# EAGLE library part TXB0104 (library electronic-labs)
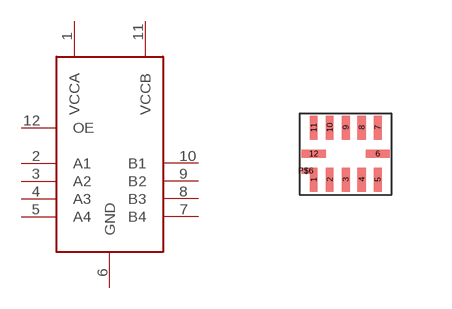
[diagram p21: symbol with the pads of UQFN-12; footprint UQFN-12]

Designator prefix U

## TXB0104  [UQFN-12]
1  VCCA
2  A1
3  A2
4  A3
5  A4
6  GND
7  B4
8  B3
9  B2
10  B1
11  VCCB
12  OE

## Footprint UQFN-12 (pad centres in mm)
smd 0.2 x 0.6: 1 -0.825,-0.7; 2 -0.425,-0.7; 3 -0.025,-0.7; 4 0.375,-0.7; 5 0.775,-0.7; 7 0.775,0.6; 8 0.375,0.6; 9 -0.025,0.6; 10 -0.425,0.6; 11 -0.825,0.6
smd 0.6 x 0.2: 6 0.775,-0.05; 12 -0.825,-0.05
smd 0.2 x 0.15: P$6 -1.025,-0.475